# Altium schematic symbol library DiffProbe.SchLib: 3 symbols
Pins are listed as number, name and electrical type; pins without a type are passive.

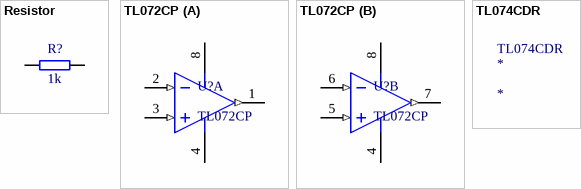
[diagram p0: symbols Resistor to TL074CDR]

## Resistor
designator R?, comment 1k
TH, Through Hole
footprint R_Axial_7.62mm
footprint C_CERAMIC_TH_P5.08mm
pins: 1, 2

## TL072CP
designator U?
IC OPAMP JFET 3MHZ 8DIP; Manufacturer: Texas Instruments; Voltage Gain: 106.02dB; Nominal Supply Current: 5mA; Max Dual Supply Voltage: 18V; Min Dual Supply Voltage: 3.5V; Dual Supply Voltage: 9V; Common Mode Rejection Ratio: 70dB; Number of Channels: 2; Slew Rate: 13V/µs; Input Bias Current: 200pA; Input Offset Voltage (Vos): 3mV; Operating Supply Current: 1.4mA; Max I/O Voltage: 10mV; Supplier 1: Mouser; Manufacturer Part Number: TL072CP; RoHS: Yes; Category: Amplifiers - Op Amps, Buffer, Instrumentation; Stock 1: 18881; Pricing 1: 1=1,01000, 10=0,91100, 50=0,86300, 100=0,86300, 1000=0,86300, 10000=0,86300 (USD); Case/Package: P; Number of Pins: 8; Contact Plating: Gold; Min Operating Temperature: -40°C; Max Operating Temperature: 85°C; Package Quantity: 50; Packaging: Rail/Tube; Unity Gain Bandwidth Product: 3MHz; Number of Circuits: 2; Gain Bandwidth Product: 3MHz; Number of Amplifiers: 2; Number of Elements: 2; Bandwidth: 3MHz; Nominal Gain Bandwidth Product: 3MHz; Max Supply Voltage: 18V; Length: 9.81mm; Width: 6.35mm; Height: 4.57mm; Radiation Hardening: No; REACH SVHC: No SVHC; Lead Free: Lead Free; RoHS Compliant: Yes; ComponentLink1URL: https://datasheet.ciiva.com/7709/1764387-7709920.pdf?src-supplier=Element14; ComponentLink1Description: https://datasheet.ciiva.com/7709/1764387-7709920.pdf?src-supplier=Element14; ComponentLink2URL: https://datasheet.ciiva.com/1796/tl071a-1796082.pdf?src-supplier=Digi-Key; ComponentLink2Description: https://datasheet.ciiva.com/1796/tl071a-1796082.pdf?src-supplier=Digi-Key; ComponentLink3URL: https://datasheet.ciiva.com/2974/tl074-2974205.pdf?src-supplier=Avnet; ComponentLink3Description: https://datasheet.ciiva.com/2974/tl074-2974205.pdf?src-supplier=Avnet; Supplier Part Number 1: 595-TL072CP
footprint P0008A (DIP, 8-Leads, Body 10.15x6.6mm, Pitch 2.54mm)
part A pins: 1 OUT1 (out), 2 IN1- (in), 3 IN1+ (in), 4 VCC- (power), 8 VCC+ (power)
part B pins: 4 VCC- (power), 5 IN1+ (in), 6 IN1- (in), 7 OUT2 (out), 8 VCC+ (power)

## TL074CDR
designator *  Supplier Part Number 1: TL074CDR
J-FET Amplifier 4 Circuit  14-SOIC; Manufacturer: Texas Instruments; Min Dual Supply Voltage: 3.5V; Voltage Gain: 106.02dB; Max Dual Supply Voltage: 18V; Unity Gain Bandwidth Product: 3MHz; Nominal Supply Current: 10mA; Common Mode Rejection Ratio: 70dB; Number of Channels: 4; Slew Rate: 13V/µs; Input Bias Current: 200pA; Input Offset Voltage (Vos): 10mV; Operating Supply Current: 1.4mA; Dual Supply Voltage: 9V; Supplier 1: Arrow Electronics; Manufacturer Part Number: TL074CDR; RoHS: Yes; Category: Amplifiers - Op Amps, Buffer, Instrumentation; Stock 1: 4; Pricing 1: 1=0,52810 (USD); Case/Package: D; Number of Pins: 14; Contact Plating: Gold; Min Operating Temperature: -40°C; Max Operating Temperature: 85°C; Packaging: Tape and Reel; Package Quantity: 1; Number of Circuits: 4; Gain Bandwidth Product: 3MHz; Number of Amplifiers: 4; Number of Elements: 4; Bandwidth: 3MHz; Nominal Gain Bandwidth Product: 3MHz; Max I/O Voltage: 10mV; Max Supply Voltage: 18V; Length: 8.65mm; Width: 3.91mm; Height: 1.58mm; Radiation Hardening: No; REACH SVHC: No SVHC; Lead Free: Lead Free; RoHS Compliant: Yes